# Altium footprint library MainPcblib.PcbLib: 316 footprints (part 19 of 20)
Each footprint in its own frame and in the unit in brackets; x right, y up, seen from the top. Pads: shape width x height; smd on the part's side, far side on the other; paste and mask are expansions set on the pad; w line width, h text height; cw(c..) or ccw(c..) is an arc to the next point about the centre after c.
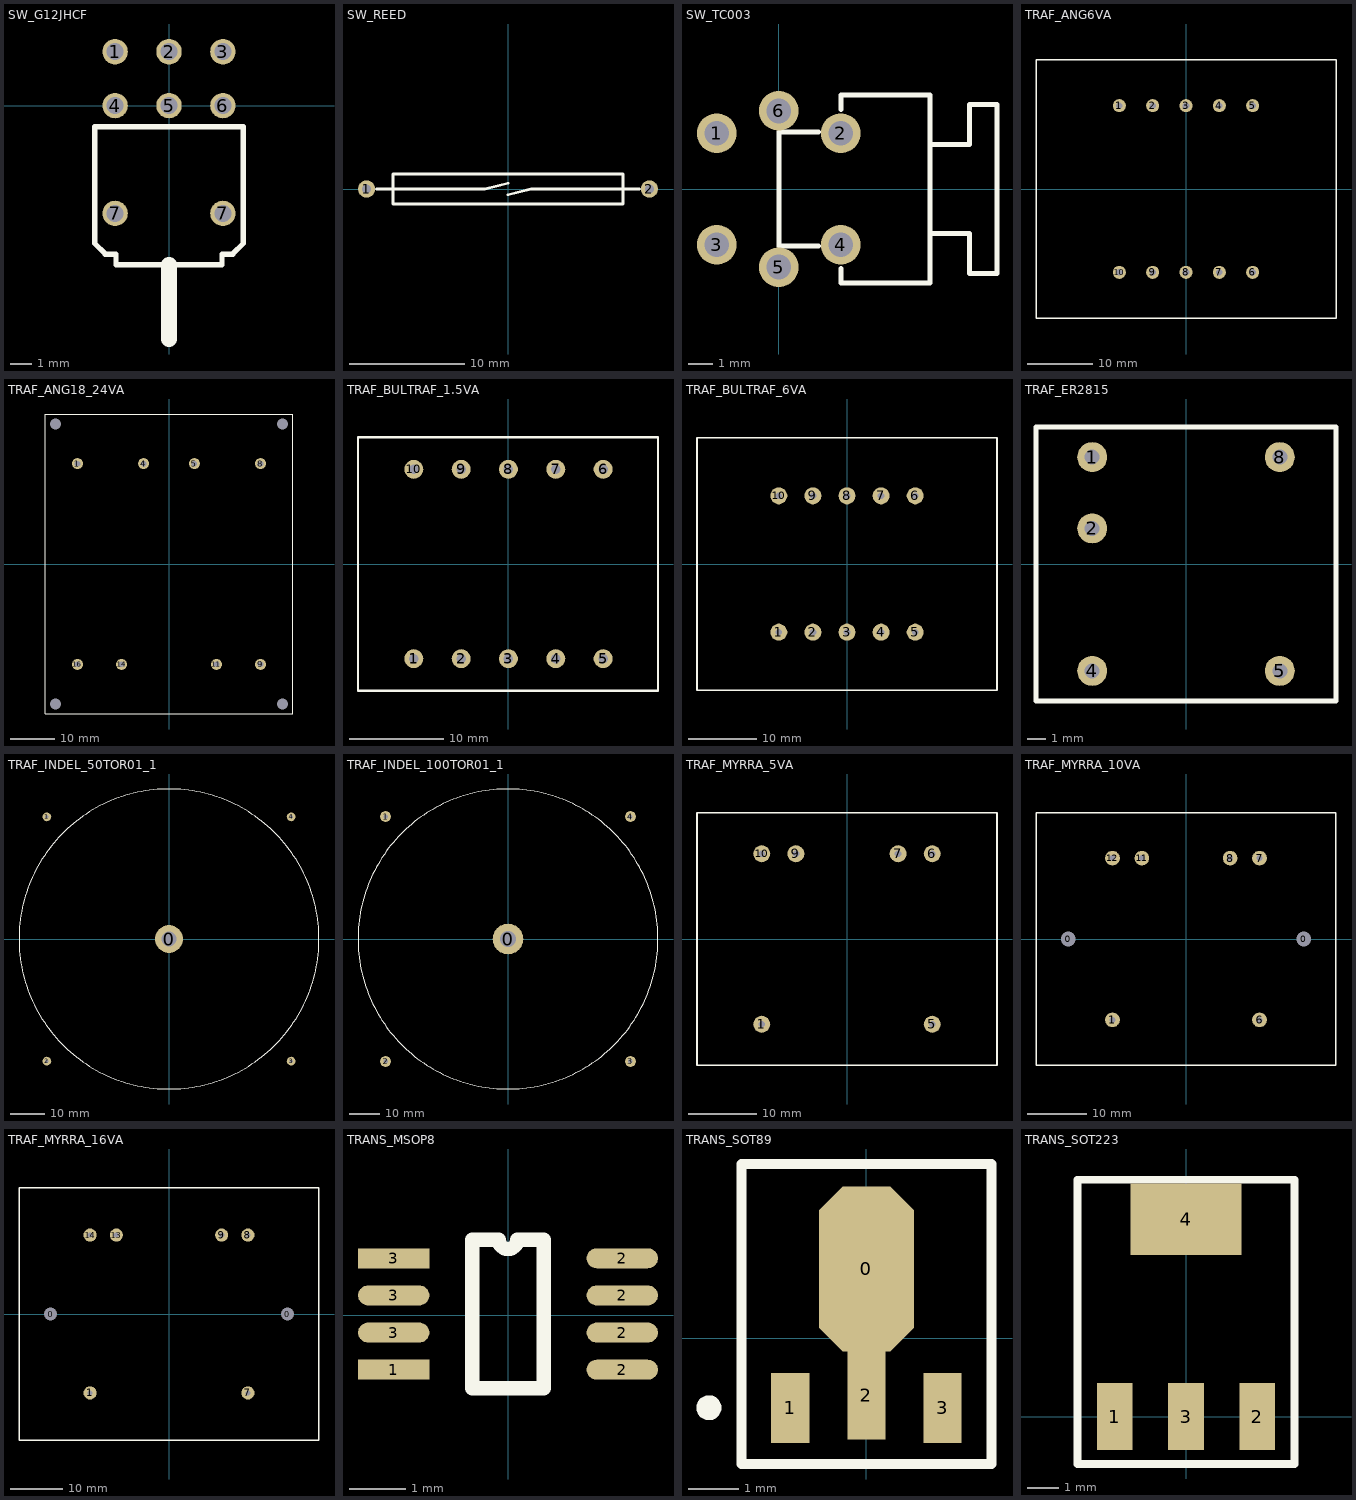
[diagram p18: the footprints below, top view; thin cyan lines are the x and y axes]

## SW_G12JHCF [mm] "G12JHCF"
pads (8):
  round 1.2 hole 0.8: 1(-2.54,2.54) 2(0,2.54) 3(2.54,2.54) 4(-2.54,0) 5(0,0) 6(2.54,0) 7(-2.54,-5.08) 7(2.54,-5.08)
Top Overlay:
  lines w0.254: -0.25,-11 -0.25,-7.5 ; 0.25,-11 0.25,-7.5 ; -3.5,-6.5 -3.5,-1 3.5,-1 3.5,-6.5 3,-7 2.5,-7 2.5,-7.5 -2.5,-7.5 -2.5,-7 -3,-7 -3.5,-6.5
  lines w0.75: 0,-11 0,-7.5

## SW_REED [mm] "reed switch"
height 3
pads (2):
  round 1.5 hole 0.8: 1(-12.3,0) 2(12.3,0)
Top Overlay:
  lines w0.254: -11.43,0 -10,0 -2,0 0,0.5 ; 0,-0.5 2,0 10,0 11.43,0 ; -10,-1.3 -10,1.3 10,1.3 10,-1.3 -10,-1.3

## SW_TC003 [mm] "Push-button with led"
height 7
pads (6):
  round 1.6 hole 1: 1(-2.5,2.25) 2(2.5,2.25) 3(-2.5,-2.25) 4(2.5,-2.25) 5(0,-3.15) 6(0,3.15)
Top Overlay:
  lines w0.2: 1.6,-2.3 0,-2.3 0,2.3 1.6,2.3 ; 2.5,-3.2 2.5,-3.8 6.1,-3.8 6.1,3.8 2.5,3.8 2.5,3.2 ; 6.1,-1.8 7.7,-1.8 7.7,-3.4 8.8,-3.4 8.8,3.4 7.7,3.4 7.7,1.8 6.1,1.8

## TRAF_ANG6VA [mm] "Transformer ANG 6VA"
pads (10):
  round 2 hole 1: 1(-10.16,12.7) 2(-5.08,12.7) 3(0,12.7) 4(5.08,12.7) 5(10.16,12.7) 6(10.16,-12.7) 7(5.08,-12.7) 8(0,-12.7) 9(-5.08,-12.7) 10(-10.16,-12.7)
Top Overlay:
  lines w0.203: -22.86,-19.685 22.86,-19.685 22.86,19.685 -22.86,19.685 -22.86,-19.685

## TRAF_ANG18_24VA [mm]
height 35
pads (12):
  round 2.5 hole 1.3: 1(-20.75,22.75) 4(-5.75,22.75) 5(5.75,22.75) 8(20.75,22.75) 9(20.75,-22.75) 11(10.75,-22.75) 14(-10.75,-22.75) 16(-20.75,-22.75)
  round 2 hole 2.5: 21(-25.75,31.75) 22(25.75,31.75) 23(25.75,-31.75) 24(-25.75,-31.75)
Top Overlay:
  lines w0.254: -28,-34 -28,34 28,34 28,-34 -28,-34

## TRAF_BULTRAF_1.5VA [mm] "Bultraf transformer 1.5VA"
height 21.8
pads (10):
  round 2 hole 1: 1(-10,-10) 2(-5,-10) 3(0,-10) 4(5,-10) 5(10,-10) 6(10,10) 7(5,10) 8(0,10) 9(-5,10) 10(-10,10)
Top Overlay:
  lines w0.254: -15.9,-13.4 -15.9,13.4 15.8,13.4 15.8,-13.4 0,-13.4 -15.9,-13.4

## TRAF_BULTRAF_6VA [mm] "Transformer Bultraf 6VA"
pads (10):
  round 2.5 hole 1: 1(-10,-10) 2(-5,-10) 3(0,-10) 4(5,-10) 5(10,-10) 6(10,10) 7(5,10) 8(0,10) 9(-5,10) 10(-10,10)
Top Overlay:
  lines w0.254: -22,-18.5 -22,18.5 22,18.5 22,-18.5 -22,-18.5

## TRAF_ER2815 [mm] "Pulse transformer for TNY26x"
height 15
pads (5):
  round 1.6 hole 0.8: 1(-5,5.7) 2(-5,1.9) 4(-5,-5.7) 5(5,-5.7) 8(5,5.7)
Top Overlay:
  lines w0.254: -8,-7.3 8,-7.3 8,7.3 -8,7.3 -8,-7.3

## TRAF_INDEL_50TOR01_1 [mm]
height 35
pads (5):
  round 8 hole 4.2: 0(0,0)
  round 2.5 hole 1: 1(-35,35) 2(-35,-35) 3(35,-35) 4(35,35)
Top Overlay:
  circle w0.254: c0,0 r43

## TRAF_INDEL_100TOR01_1 [mm]
height 40
pads (5):
  round 10 hole 5.2: 0(0,0)
  round 3.5 hole 1.5: 1(-40,40) 2(-40,-40) 3(40,-40) 4(40,40)
Top Overlay:
  circle w0.254: c0,0 r49

## TRAF_MYRRA_5VA [mm] "Transformer, Myrra, 5VA"
height 33
pads (6):
  round 2.5 hole 1: 1(-12.5,-12.5) 5(12.5,-12.5) 6(12.5,12.5) 7(7.5,12.5) 9(-7.5,12.5) 10(-12.5,12.5)
Top Overlay:
  lines w0.254: -22,-18.5 22,-18.5 22,18.5 -22,18.5 -22,-18.5

## TRAF_MYRRA_10VA [mm] "Transformer, Myrra, 10VA"
height 35
pads (8):
  round 2 hole 2.5: 0(-20,0) 0(20,0)
  round 2.5 hole 1: 1(-12.5,-13.75) 6(12.5,-13.75) 7(12.5,13.75) 8(7.5,13.75) 11(-7.5,13.75) 12(-12.5,13.75)
Top Overlay:
  lines w0.254: -25.5,-21.5 -25.5,21.5 25.5,21.5 25.5,-21.5 -25.5,-21.5

## TRAF_MYRRA_16VA [mm] "Transformer, Myrra, 16VA"
height 40
pads (8):
  round 2 hole 2.5: 0(-22.5,0) 0(22.5,0)
  round 2.5 hole 1: 1(-15,-15) 7(15,-15) 8(15,15) 9(10,15) 13(-10,15) 14(-15,15)
Top Overlay:
  lines w0.254: -28.5,-24 -28.5,24 28.5,24 28.5,-24 -28.5,-24

## TRANS_MSOP8 [mil]
pads (8):
  rect 50x14 smd: 1(-80,-38) 3(-80,40)
  oval 50x14 smd: 2(80,-38) 2(80,-12) 2(80,14) 2(80,40) 3(-80,-12) 3(-80,14)
Top Overlay:
  lines w10: -25,-51 25,-51 25,53 6.5,53 cw(c0,53) -6.5,53 -25,53 -25,-51

## TRANS_SOT89 [mil]
pads (4):
  oct 74.8x129.92 smd: 0(-0.03,54.38)
  rect 30x55 smd: 1(-60,-55) 3(60,-55)
  rect 30x70 smd: 2(0,-45)
Top Overlay:
  circle w9.84: c-124.05,-54.87 r4.92
  lines w7.87: -98.46,-99.17 98.39,-99.17 98.39,137.05 -98.46,137.05 -98.46,-99.17

## TRANS_SOT223 [mil] "SOT223 - transistor package"
pads (4):
  rect 45x85 smd: 1(-90,0) 2(90,0) 3(0,0)
  rect 140x90 smd: 4(0,250)
Top Overlay:
  lines w9.84: -137.5,-60 -137.5,300 137.5,300 137.5,-60 -137.5,-60